# Altium footprint library PCB.PcbLib: 17 footprints (part 2 of 2)
Each footprint in its own frame and in the unit in brackets; x right, y up, seen from the top. Pads: shape width x height; smd on the part's side, far side on the other; paste and mask are expansions set on the pad; w line width, h text height; cw(c..) or ccw(c..) is an arc to the next point about the centre after c.
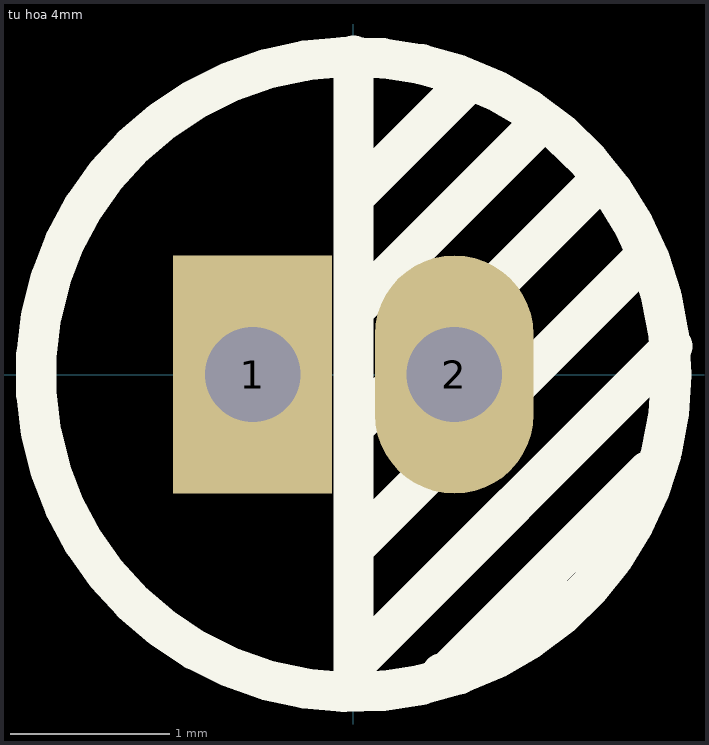
[diagram p1: the footprint, top view; thin cyan lines are the x and y axes]

## tu hoa 4mm [mm]
pads (2):
  rect 1x1.5 hole 0.6: 1(-0.635,0)
  oval 1x1.5 hole 0.6: 2(0.635,0)
Top Overlay:
  circle w0.254: c0,0 r2
  lines w0.254: 0,-1.956 0,2.007 ; 0,-1.803 0.025,-1.803 2.007,0.178 ; 0,-1.27 0,-1.092 1.829,0.737 ; 0,-0.381 0,-0.33 1.549,1.219 ; 0,0.279 0,0.406 1.143,1.549 ; 0,0.94 0,1.118 0.711,1.829 ; 0.559,-1.88 0.584,-1.88 1.854,-0.61
3D body "Cap electro 5x11x2mm.step": height 14.81, standoff 0.01, extent -2.474,-2.474 2.576,2.576